# EAGLE library part ESP32-PICO (library Co.-ESP)
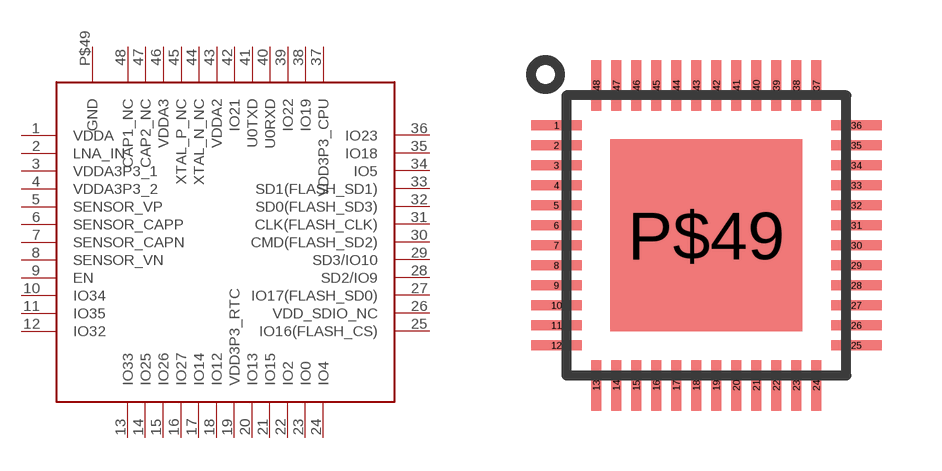
[diagram p25: symbol with the pads of 48P-7X7; footprint 48P-7X7]

Designator prefix -

## ESP32-PICO  [48P-7X7]
1  VDDA
2  LNA_IN
3  VDDA3P3_1
4  VDDA3P3_2
5  SENSOR_VP
6  SENSOR_CAPP
7  SENSOR_CAPN
8  SENSOR_VN
9  EN
10  IO34
11  IO35
12  IO32
13  IO33
14  IO25
15  IO26
16  IO27
17  IO14
18  IO12
19  VDD3P3_RTC
20  IO13
21  IO15
22  IO2
23  IO0
24  IO4
25  IO16(FLASH_CS)
26  VDD_SDIO_NC
27  IO17(FLASH_SD0)
28  SD2/IO9
29  SD3/IO10
30  CMD(FLASH_SD2)
31  CLK(FLASH_CLK)
32  SD0(FLASH_SD3)
33  SD1(FLASH_SD1)
34  IO5
35  IO18
36  IO23
37  VDD3P3_CPU
38  IO19
39  IO22
40  U0RXD
41  U0TXD
42  IO21
43  VDDA2
44  XTAL_N_NC
45  XTAL_P_NC
46  VDDA3
47  CAP2_NC
48  CAP1_NC
P$49  GND

## Footprint 48P-7X7 (pad centres in mm)
smd 1.27 x 0.25: 1 -3.75,2.75; 2 -3.75,2.25; 3 -3.75,1.75; 4 -3.75,1.25; 5 -3.75,0.75; 6 -3.75,0.25; 7 -3.75,-0.25; 8 -3.75,-0.75; 9 -3.75,-1.25; 10 -3.75,-1.75; 11 -3.75,-2.25; 12 -3.75,-2.75; 25 3.75,-2.75; 26 3.75,-2.25; 27 3.75,-1.75; 28 3.75,-1.25; 29 3.75,-0.75; 30 3.75,-0.25; 31 3.75,0.25; 32 3.75,0.75; 33 3.75,1.25; 34 3.75,1.75; 35 3.75,2.25; 36 3.75,2.75
smd 0.25 x 1.27: 13 -2.75,-3.75; 14 -2.25,-3.75; 15 -1.75,-3.75; 16 -1.25,-3.75; 17 -0.75,-3.75; 18 -0.25,-3.75; 19 0.25,-3.75; 20 0.75,-3.75; 21 1.25,-3.75; 22 1.75,-3.75; 23 2.25,-3.75; 24 2.75,-3.75; 37 2.75,3.75; 38 2.25,3.75; 39 1.75,3.75; 40 1.25,3.75; 41 0.75,3.75; 42 0.25,3.75; 43 -0.25,3.75; 44 -0.75,3.75; 45 -1.25,3.75; 46 -1.75,3.75; 47 -2.25,3.75; 48 -2.75,3.75
smd 4.8 x 4.8: P$49 0,0